# EAGLE library part TRAFO-BLOCK-VC5,0/XX-5VA (library 1A-meinLib)
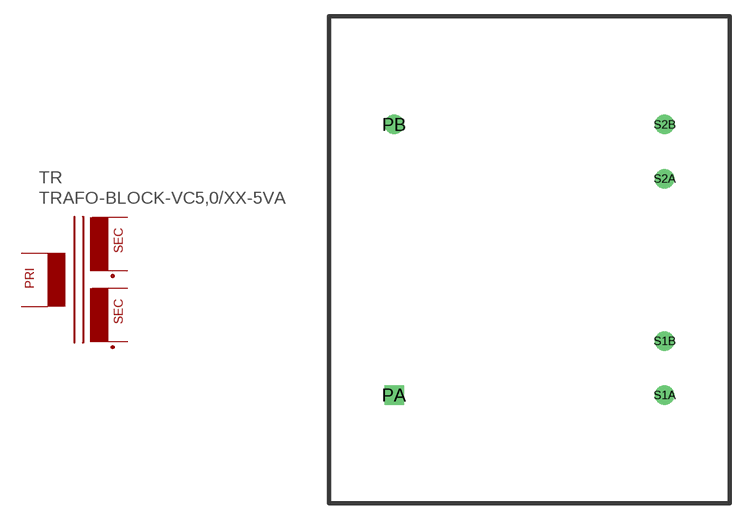
[diagram p114: symbol with the pads of TRAFO-BLOCK-VC5,0/XX-5VA; footprint TRAFO-BLOCK-VC5,0/XX-5VA]

Designator prefix TR

## TRAFO-BLOCK-VC5,0/XX-5VA  [TRAFO-BLOCK-VC5,0/XX-5VA]
PA  PA  pas
PB  PB  pas
S1A  S1A  pas
S1B  S1B  pas
S2A  S2A  pas
S2B  S2B  pas

## Footprint TRAFO-BLOCK-VC5,0/XX-5VA (pad centres in mm)
Printtransformator, 5W, Typ VC 5,0/2/xx, BLOCK
drill 1.2 square: PA 0,0
drill 1.2 round: PB 0,25; S1A 25,0; S1B 25,5; S2A 25,20; S2B 25,25